# EAGLE library part MSP430G2553_SSOP20 (library SE423EagleLibrary)
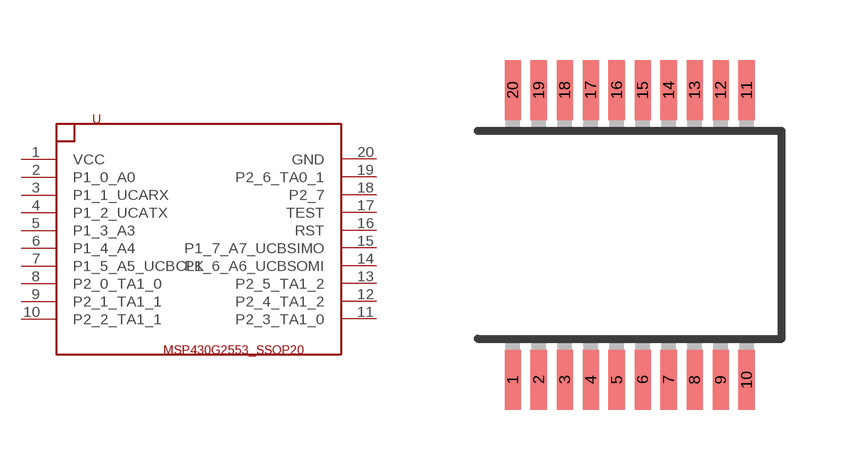
[diagram p8: symbol with the pads of SSOP20; footprint SSOP20]

Designator prefix U

## MSP430G2553_SSOP20  [SSOP20]
1  VCC
2  P1_0_A0
3  P1_1_UCARX
4  P1_2_UCATX
5  P1_3_A3
6  P1_4_A4
7  P1_5_A5_UCBCLK
8  P2_0_TA1_0
9  P2_1_TA1_1
10  P2_2_TA1_1
11  P2_3_TA1_0
12  P2_4_TA1_2
13  P2_5_TA1_2
14  P1_6_A6_UCBSOMI
15  P1_7_A7_UCBSIMO
16  RST
17  TEST
18  P2_7
19  P2_6_TA0_1
20  GND

## Footprint SSOP20 (pad centres in mm)
Shrink Small Outline Package package type SS
smd 0.4 x 1.5: 1 -2.925,-3.625; 2 -2.275,-3.625; 3 -1.625,-3.625; 4 -0.975,-3.625; 5 -0.325,-3.625; 6 0.325,-3.625; 7 0.975,-3.625; 8 1.625,-3.625; 9 2.275,-3.625; 10 2.925,-3.625; 11 2.925,3.625; 12 2.275,3.625; 13 1.625,3.625; 14 0.975,3.625; 15 0.325,3.625; 16 -0.325,3.625; 17 -0.975,3.625; 18 -1.625,3.625; 19 -2.275,3.625; 20 -2.925,3.625